# EAGLE library part AS4432 (library RemoteSwitchComponents)
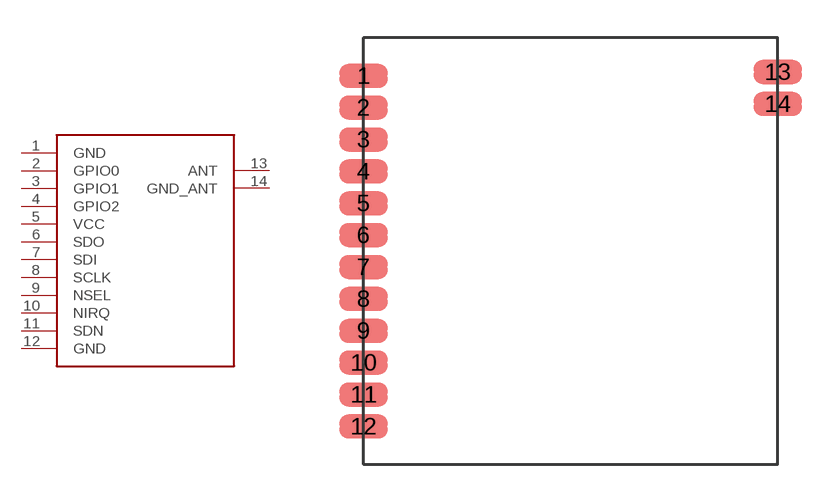
[diagram p0: symbol with the pads of AS4432-SMD; footprint AS4432-SMD]

Designator prefix -

## AS4432  [AS4432-SMD]
1  GND  pwr
2  GPIO0
3  GPIO1
4  GPIO2
5  VCC  pwr
6  SDO
7  SDI
8  SCLK
9  NSEL
10  NIRQ
11  SDN
12  GND  pwr
13  ANT
14  GND_ANT

## Footprint AS4432-SMD (pad centres in mm)
smd 1.93 x 0.965: 1 -8.89,6.59; 2 -8.89,5.32; 3 -8.89,4.05; 4 -8.89,2.78; 5 -8.89,1.51; 6 -8.89,0.24; 7 -8.89,-1.03; 8 -8.89,-2.3; 9 -8.89,-3.57; 10 -8.89,-4.84; 11 -8.89,-6.11; 12 -8.89,-7.38; 13 7.62,6.74; 14 7.62,5.47